# Altium schematic symbol library M7.SCHLIB: 1 symbol
Pins are listed as number, name and electrical type; pins without a type are passive.

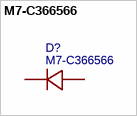
[diagram p0: symbol M7-C366566]

## M7-C366566
designator D?
Manufacturer: DOWO(东沃); Manufacturer Part: M7; Contributor: LCSC; Supplier: LCSC; Supplier Part: C366566; JLCPCB Part Class: Extended Part; spicePre: D; spiceSymbolName: M7-C366566
footprint SMAF_L3.5-W2.6-LS4.7-RD
pins: 1 C, 2 A